# EAGLE library part CY62148EV30LL-45ZSXIT (library SamacSys_Parts)
SRAM 4Mb 3V 45ns 512K x 8 LP SRAM Source: Datasheet <https://datasheet.lcsc.com/szlcsc/2004291404_Cypress-Semicon-CY62148EV30LL-45ZSXIT_C511132.pdf>
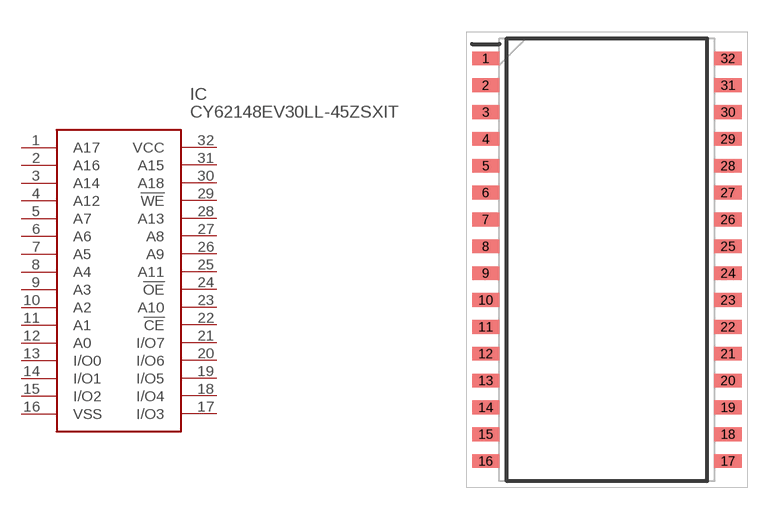
[diagram p5: symbol with the pads of SOIC127P1176X120-32N; footprint SOIC127P1176X120-32N]

Designator prefix IC

## CY62148EV30LL-45ZSXIT (Description: SRAM 4Mb 3V 45ns 512K x 8 LP SRAM; Height: 1.2mm; Manufacturer_Name: Infineon; Manufacturer_Part_Number: CY62148EV30LL-45ZSXIT; Mouser_Part_Number: 727-CY8EV30LL45ZSXIT; Mouser_Price-Stock: https://www.mouser.co.uk/ProductDetail/Cypress-Semiconductor/CY62148EV30LL-45ZSXIT?qs=7NE86GkllXeyVAeJXhsAlQ%3D%3D)  [SOIC127P1176X120-32N]
1  A17
2  A16
3  A14
4  A12
5  A7
6  A6
7  A5
8  A4
9  A3
10  A2
11  A1
12  A0
13  I/O0
14  I/O1
15  I/O2
16  VSS
17  I/O3
18  I/O4
19  I/O5
20  I/O6
21  I/O7
22  !CE
23  A10
24  !OE
25  A11
26  A9
27  A8
28  A13
29  !WE
30  A18
31  A15
32  VCC

## Footprint SOIC127P1176X120-32N (pad centres in mm)
CY62148EV30LL-45ZSXIT
smd 1.295 x 0.65: 1 -5.728,9.525; 2 -5.728,8.255; 3 -5.728,6.985; 4 -5.728,5.715; 5 -5.728,4.445; 6 -5.728,3.175; 7 -5.728,1.905; 8 -5.728,0.635; 9 -5.728,-0.635; 10 -5.728,-1.905; 11 -5.728,-3.175; 12 -5.728,-4.445; 13 -5.728,-5.715; 14 -5.728,-6.985; 15 -5.728,-8.255; 16 -5.728,-9.525; 17 5.728,-9.525; 18 5.728,-8.255; 19 5.728,-6.985; 20 5.728,-5.715; 21 5.728,-4.445; 22 5.728,-3.175; 23 5.728,-1.905; 24 5.728,-0.635; 25 5.728,0.635; 26 5.728,1.905; 27 5.728,3.175; 28 5.728,4.445; 29 5.728,5.715; 30 5.728,6.985; 31 5.728,8.255; 32 5.728,9.525